# Altium schematic symbol library Optical.SchLib: 12 symbols
Pins are listed as number, name and electrical type; pins without a type are passive.

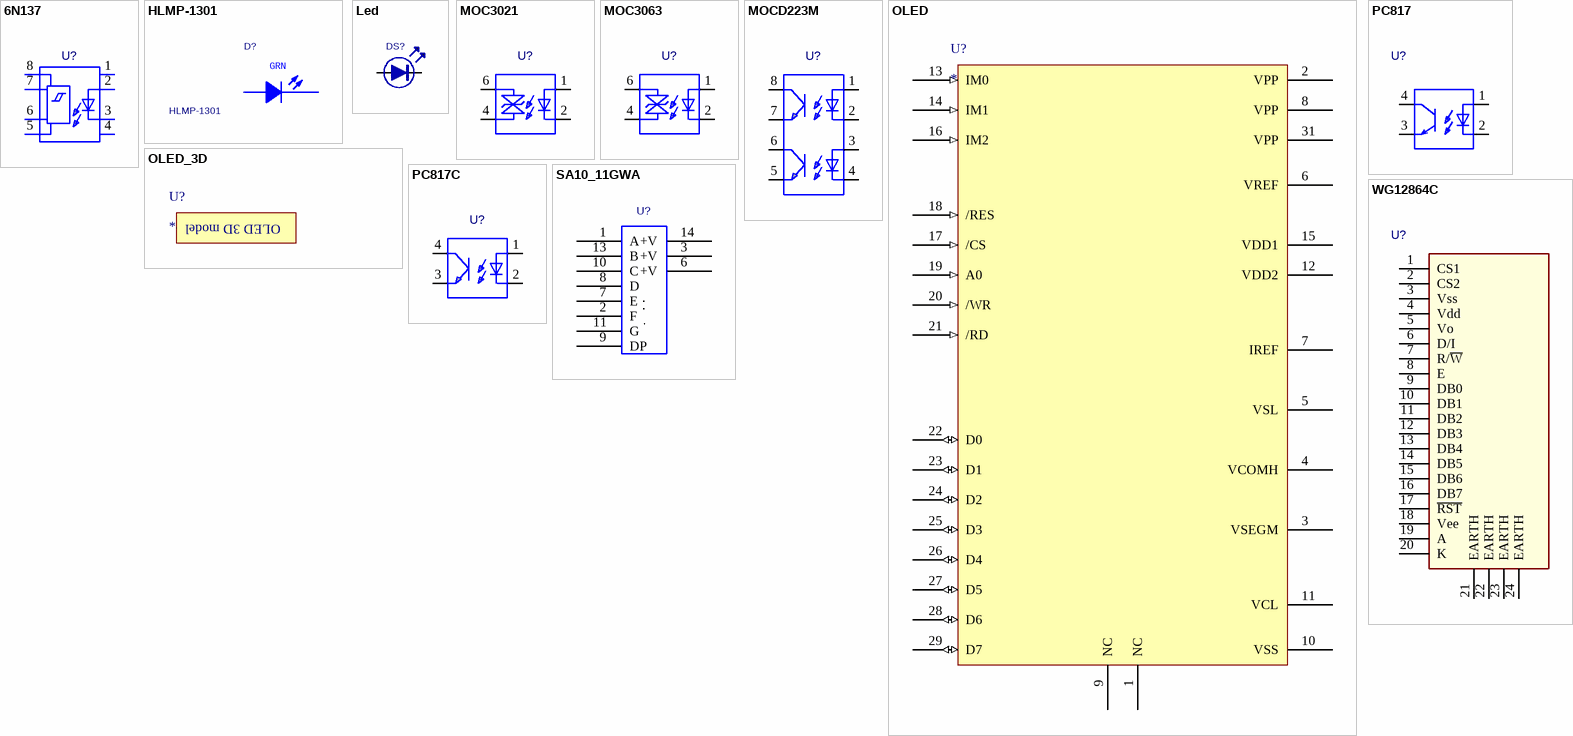
[diagram p0: symbols 6N137 to WG12864C]

## 6N137
designator U?
6N137; Value: *
footprint DIP-8
pins: 1, 2, 3, 4, 5, 6, 7, 8

## HLMP-1301
designator D?
T-1 (3 mm) Difused LED; Manufacturer: Avago Technologies; Part number: HLMP-1301
footprint LED1206-59X59
pins: 1 C, 2 A
text: GRN

## Led
designator DS?
Led
pins: 1, 2

## MOC3021
designator U?  (value not drawn)
MOC3021 Optocouple
pins: 1, 2, 4, 6

## MOC3063
designator U?  (value not drawn)
MOC3063 Optocouple
pins: 1, 2, 4, 6

## MOCD223M
designator U?, comment PC817  (value not drawn)
MOCD223M
pins: 1, 2, 3, 4, 5, 6, 7, 8

## OLED
designator U?
OLED Display
pins: 1 NC, 2 VPP (power), 3 VSEGM, 4 VCOMH, 5 VSL, 6 VREF (power), 7 IREF, 8 VPP (power), 9 NC, 10 VSS (power), 11 VCL, 12 VDD2 (power), 13 IM0 (in), 14 IM1 (in), 15 VDD1 (power), 16 IM2 (in), 17 /CS (in), 18 /RES (in), 19 A0 (in), 20 /WR (in), 21 /RD (in), 22 D0 (io), 23 D1 (io), 24 D2 (io), 25 D3 (io), 26 D4 (io), 27 D5 (io), 28 D6 (io), 29 D7 (io), 31 VPP (power)

## OLED_3D
designator U?
OLED Display
pins: 32
text: OLED 3D model

## PC817
designator U?  (value not drawn)
PC817 Optocouple
pins: 1, 2, 3, 4

## PC817C
designator U?, comment PC817  (value not drawn)
PC817 Optocouple
pins: 1, 2, 3, 4

## SA10_11GWA
designator U?
SA10_11GWA
pins: 1 A, 2 F, 3 +V, 4 NC, 5 NC, 6 +V, 7 E, 8 D, 9 DP, 10 C, 11 G, 12 NC, 13 B, 14 +V

## WG12864C
designator U?
WG12864C; Value: *
pins: 1 CS1, 2 CS2, 3 Vss, 4 Vdd, 5 Vo, 6 D/I, 7 R/~{W}, 8 E, 9 DB0, 10 DB1, 11 DB2, 12 DB3, 13 DB4, 14 DB5, 15 DB6, 16 DB7, 17 ~{RST}, 18 Vee, 19 A, 20 K, 21 EARTH, 22 EARTH, 23 EARTH, 24 EARTH